# Altium footprint library 24-VQFN.PcbLib: 1 footprints
Each footprint in its own frame and in the unit in brackets; x right, y up, seen from the top. Pads: shape width x height; smd on the part's side, far side on the other; paste and mask are expansions set on the pad; w line width, h text height; cw(c..) or ccw(c..) is an arc to the next point about the centre after c.
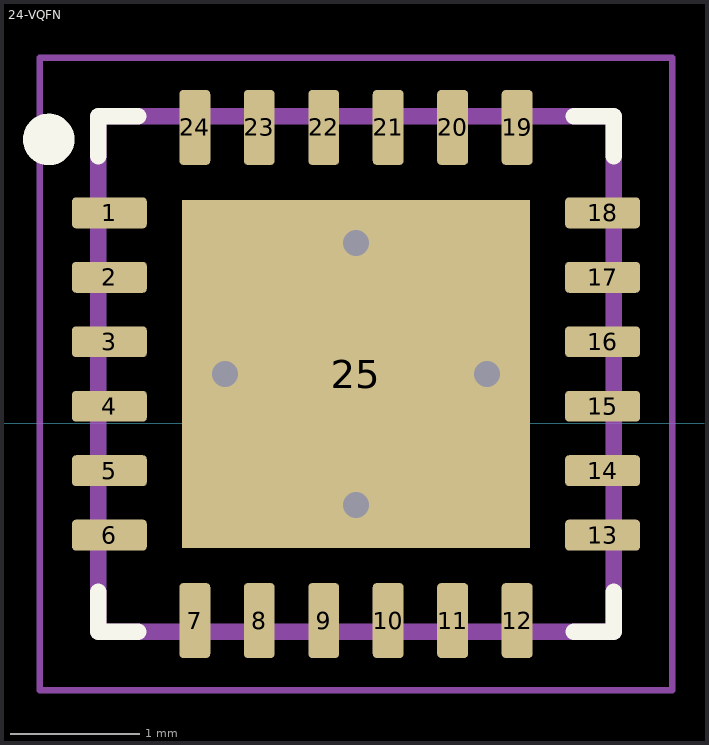
[diagram p0: the footprint, top view; thin cyan lines are the x and y axes]

## 24-VQFN [mm] "PQFN, 24-Leads, Body 4.00x4.00mm, Pitch 0.50mm, Thermal Pad 2.00x2.00mm, IPC Medium Density"
height 1
pads (25):
  rrect25% 0.58x0.24 smd: 1(1.77,1.631) 2(1.77,1.131) 3(1.77,0.631) 4(1.77,0.131) 5(1.77,-0.369) 6(1.77,-0.869) 13(5.596,-0.869) 14(5.596,-0.369) 15(5.596,0.131) 16(5.596,0.631) 17(5.596,1.131) 18(5.596,1.631)
  rrect25% 0.24x0.58 smd: 7(2.433,-1.532) 8(2.933,-1.532) 9(3.433,-1.532) 10(3.933,-1.532) 11(4.433,-1.532) 12(4.933,-1.532) 19(4.933,2.294) 20(4.433,2.294) 21(3.933,2.294) 22(3.433,2.294) 23(2.933,2.294) 24(2.433,2.294)
  rect 2.7x2.7 smd paste-2: 25(3.683,0.381)
via 3.683,1.397 diameter 0.4 hole 0.2
via 2.667,0.381 diameter 0.4 hole 0.2
via 3.683,-0.635 diameter 0.4 hole 0.2
via 4.699,0.381 diameter 0.4 hole 0.2
Top Overlay:
  circle w0.2: c1.3,2.2 r0.1
  lines w0.127: 1.683,-1.324 1.683,-1.619 ; 1.683,-1.309 1.683,-1.619 ; 1.683,2.071 1.683,2.381 ; 1.683,2.086 1.683,2.381 ; 1.978,-1.619 1.683,-1.619 ; 1.978,2.381 1.683,2.381 ; 1.993,-1.619 1.683,-1.619 ; 1.993,2.381 1.683,2.381 ; 5.373,-1.619 5.683,-1.619 ; 5.373,2.381 5.683,2.381 ; 5.388,-1.619 5.683,-1.619 ; 5.388,2.381 5.683,2.381 ; 5.683,-1.324 5.683,-1.619 ; 5.683,-1.309 5.683,-1.619 ; 5.683,2.071 5.683,2.381 ; 5.683,2.086 5.683,2.381
Top Paste:
  region: 4.971,-0.907 3.783,-0.907 3.783,0.281 4.971,0.281
  region: 3.583,0.481 2.395,0.481 2.395,1.669 3.583,1.669
  region: 4.971,0.481 3.783,0.481 3.783,1.669 4.971,1.669
  region: 3.583,-0.907 2.395,-0.907 2.395,0.281 3.583,0.281
Mechanical 13:
  lines w0.127: 1.683,-1.619 5.683,-1.619 5.683,2.381 1.683,2.381 1.683,-1.619
Mechanical 15:
  lines w0.05: 1.231,-2.071 1.231,2.833 6.135,2.833 6.135,-2.071 1.231,-2.071
3D body "QFN-24 - EQ.step": height 1, standoff 0, extent 1.658,-1.618 5.658,2.381